# Altium schematic symbol library BTM7710GP.SchLib: 1 symbol
Pins are listed as number, name and electrical type; pins without a type are passive.

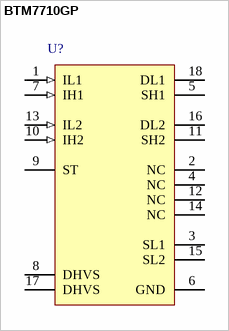
[diagram p0: symbol BTM7710GP]

## BTM7710GP
designator U?
TrilithIC, 4.5 to 42 V, -40 to 110 degC, PG-TO263-15-1, Reel, Green; Manufacturer: Infineon; PartNumber: BTM7710GP; Green: TRUE; ID(lim): 15 A; Iq (typ): 5 uA; Protect: OT, Short circuit; RDS(on) (typ): 110 mOhm; VS (max): 42 V; DatasheetVersion: Rev. 1.0; PackageVersion: May-08; PackageReference: PG-TO263-15-1; PackageDescription: 15-Pin Plastic (Green) Transistor Single Outline Package, 21.6 x 9.25 mm Body, 1.4 mm Pitch; Supplier 1: Digi-Key; Supplier Part Number 1: BTM7710GPTR-ND; Supplier 2: Digi-Key; Supplier Part Number 2: BTM7710GPCT-ND; Supplier 3: Digi-Key; Supplier Part Number 3: BTM7710GPDKR-ND; Supplier 4: Farnell; Supplier Part Number 4: 2215551; Supplier 5: Newark; Supplier Part Number 5: 47W3370; Supplier 6: Mouser; Supplier Part Number 6: 726-BTM7710GP; Group: TrilithIC; Halogen-free: TRUE; Operating Range: 4.5 to 42 V; Mounting Technology: Surface Mount; ComponentLink1Description: Manufacturer URL; ComponentLink1URL: http://www.infineon.com/; ComponentLink2Description: Datasheet; ComponentLink2URL: http://www.infineon.com/dgdl/BTM7710GP_DS_10.pdf?folderId=db3a3043156fd5730116144c5d101c30&fileId=db3a30431ce5fb52011d2e5153631e92&location=en.Products.Automotive_ICs.Motor_Drivers__Automotive_.Integrated_High_Current_Motor_Drivers__NovalithIC____Trilith_IC_.DATASHEET.BTM7710GP_DS_10.pdf; ComponentLink3Description: Package Specification; ComponentLink3URL: http://www.infineon.com/dgdl/BTM7811K_DS_10.pdf?folderId=db3a3043156fd5730116144c5d101c30&fileId=db3a30431be39b97011bea1ad66c7ff6&sId=db3a30433d68e984013d7f42f8736279
footprint INF-PG-TO263-15-1_V (TO263, 15-Leads, Body 21.6x9.25mm, Pitch 1.4mm)
pins: 1 IL1 (in) "Analog input of low-side switch 1", 2 NC "Not connected", 3 SL1 (power) "Source of low-side switch 1", 4 NC "Not connected", 5 SH1 (power) "Source of high-side switch 1", 6 GND (power) "Ground of high-side switches", 7 IH1 (in) "Digital input of high-side switch 1", 8 DHVS (power) "Drain of high-side switches and power supply voltage", 9 ST (oc) "Status; open Drain output.", 10 IH2 (in) "Digital input of high-side switch 2", 11 SH2 (power) "Source of high-side switch 2", 12 NC "Not connected", 13 IL2 (in) "Analog input of low-side switch 2", 14 NC "Not connected", 15 SL2 (power) "Source of low-side switch 2", 16 DL2 (power) "Drain of low-side switch 2 Heat-Slug 3 or Heat-Disssipator.", 17 DHVS (power) "Drain of high-side switches and power supply voltage Heat-Slug 2 or Heat-Dissipator.", 18 DL1 (power) "Drain of low-side switch 1 Heat-Slug 1 or Heat-Dissipator"